# EAGLE library part ADXL362 (library BGM220S)
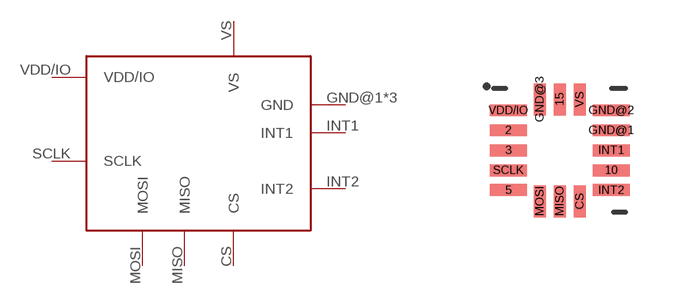
[diagram p4: symbol with the pads of TFLGA-16/3.3MMX3.1MM; footprint TFLGA-16/3.3MMX3.1MM]

Designator prefix -

## ADXL362  [TFLGA-16/3.3MMX3.1MM]
CS  CS
GND@1  GND
GND@2  GND
GND@3  GND
INT1  INT1
INT2  INT2
MISO  MISO
MOSI  MOSI
SCLK  SCLK
VDD/IO  VDD/IO
VS  VS

## Footprint TFLGA-16/3.3MMX3.1MM (pad centres in mm)
smd 0.925 x 0.3: 2 -1.288,0.5; 3 -1.288,0; 5 -1.288,-1; 10 1.288,-0.5; GND@1 1.288,0.5; GND@2 1.288,1; INT1 1.288,0; INT2 1.288,-1; SCLK -1.288,-0.5; VDD/IO -1.288,1
smd 0.3 x 0.8: 15 0,1.275; CS 0.5,-1.275; GND@3 -0.5,1.275; MISO 0,-1.275; MOSI -0.5,-1.275; VS 0.5,1.275